# EAGLE library part HCF4541BEY (library ST_Microelctronics_By_element14_Batch_1)
PROGRAMMABLE TIMER
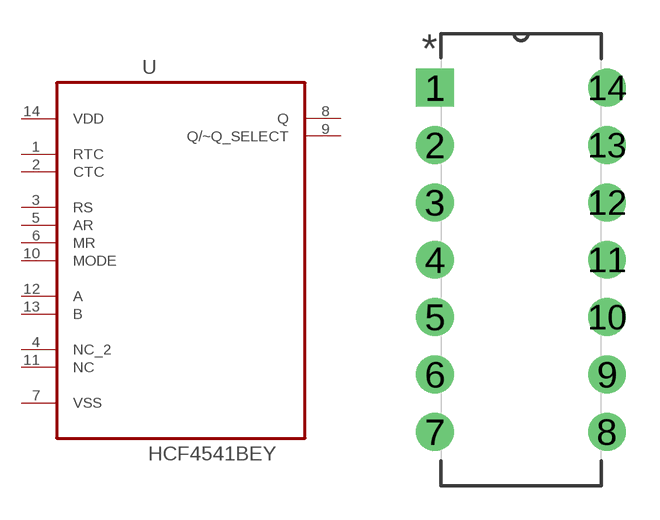
[diagram p24: symbol with the pads of DIP254P762X510-14; footprint DIP254P762X510-14]

Designator prefix U

## HCF4541BEY (MPN: HCF4541BEY; OC_FARNELL: -; OC_NEWARK: 89K0597; PACKAGE: DIP-28; SUPPLIER: STMICROELECTRONICS)  [DIP254P762X510-14]
1  RTC  pas
2  CTC  pas
3  RS  in
4  NC_2  nc
5  AR  in
6  MR  in
7  VSS  pwr
8  Q  out
9  Q/~Q_SELECT  out
10  MODE  in
11  NC  nc
12  A  in
13  B  in
14  VDD  pwr

## Footprint DIP254P762X510-14 (pad centres in mm)
drill 1.118 square: 1 -7.62,15.24
drill 1.118: 2 -7.62,12.7; 3 -7.62,10.16; 4 -7.62,7.62; 5 -7.62,5.08; 6 -7.62,2.54; 7 -7.62,0; 8 0,0; 9 0,2.54; 10 0,5.08; 11 0,7.62; 12 0,10.16; 13 0,12.7; 14 0,15.24